# Altium schematic symbol library Schlib_AC.SchLib: 27 symbols
Pins are listed as number, name and electrical type; pins without a type are passive.

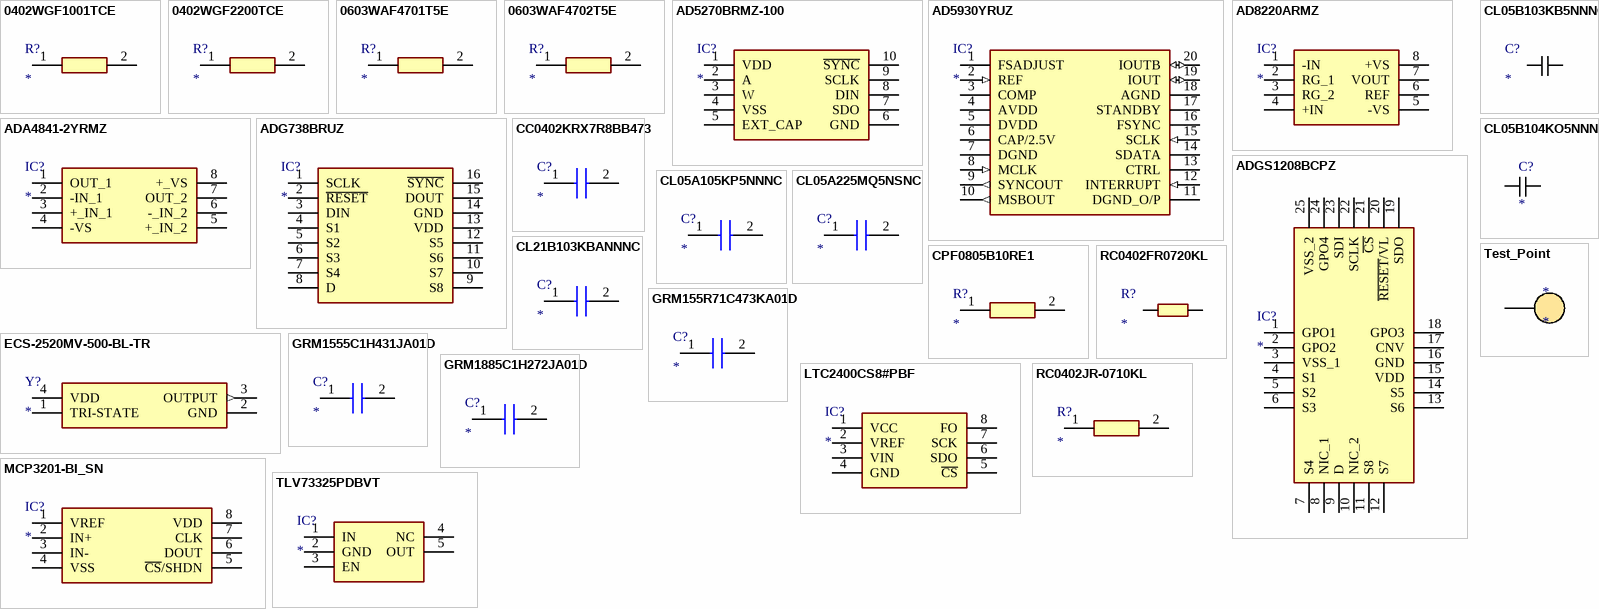
[diagram p0: symbols 0402WGF1001TCE to TLV73325PDBVT]

## 0402WGF1001TCE
designator R?
Resistor; Manufacturer_Name: UNI-ROYAL(Uniroyal Elec); Manufacturer_Part_Number: 0402WGF1001TCE; Description: 1K +/-1% 1/16W +/-100ppm/ 0402 Chip Resistor; Datasheet Link: https://datasheet.lcsc.com/szlcsc/Uniroyal-Elec-0402WGF1001TCE_C11702.pdf; Height: 0.4mm
footprint RESC1005X40N
pins: 1, 2

## 0402WGF2200TCE
designator R?
Resistor; Manufacturer_Name: ROYALOHM; Manufacturer_Part_Number: 0402WGF2200TCE; Datasheet Link: https://www2.mouser.com/datasheet/2/1365/1-3044649.pdf; Height: 0.4mm; Mouser Part Number: 303-0402WGF2200TCE; Mouser Price/Stock: https://www.mouser.co.uk/ProductDetail/Royalohm/0402WGF2200TCE?qs=e8oIoAS2J1RP9vRYNvZ%252BDQ%3D%3D
footprint RESC1005X40N
pins: 1, 2

## 0603WAF4701T5E
designator R?
Resistor; Manufacturer_Name: UNI-ROYAL(Uniroyal Elec); Manufacturer_Part_Number: 0603WAF4701T5E; Datasheet Link: https://datasheet.lcsc.com/szlcsc/Uniroyal-Elec-0603WAF4701T5E_C23162.pdf; Height: 0.55mm
footprint RESC1608X55N
pins: 1, 2

## 0603WAF4702T5E
designator R?
Resistor; Manufacturer_Name: UNI-ROYAL(Uniroyal Elec); Manufacturer_Part_Number: 0603WAF4702T5E; Datasheet Link: https://datasheet.lcsc.com/szlcsc/Uniroyal-Elec-0603WAF4702T5E_C25819.pdf; Height: 0.55mm
footprint RESC1608X55N
pins: 1, 2

## AD5270BRMZ-100
designator IC?
Integrated Circuit; Manufacturer_Name: Analog Devices; Manufacturer_Part_Number: AD5270BRMZ-100; Datasheet Link: https://www.analog.com/media/en/technical-documentation/data-sheets/ad5270_5271.pdf; Height: 1.1mm; Mouser Part Number: 584-AD5270BRMZ-100; Mouser Price/Stock: https://www.mouser.co.uk/ProductDetail/Analog-Devices/AD5270BRMZ-100?qs=NmRFExCfTkFpgTn7ufWp4w%3D%3D; Arrow Part Number: AD5270BRMZ-100; Arrow Price/Stock: https://www.arrow.com/en/products/ad5270brmz-100/analog-devices?region=europe
footprint SOP50P490X110-10N
pins: 1 VDD, 2 A, 3 W, 4 VSS, 5 EXT_CAP, 6 GND, 7 SDO, 8 DIN, 9 SCLK, 10 ~{SYNC}

## AD5930YRUZ
designator IC?
Integrated Circuit; Manufacturer_Name: Analog Devices; Manufacturer_Part_Number: AD5930YRUZ; Datasheet Link: https://datasheet.datasheetarchive.com/originals/distributors/Datasheets-4/DSA-67194.pdf; Height: 1.2mm; Mouser Part Number: 584-AD5930YRUZ; Mouser Price/Stock: https://www.mouser.co.uk/ProductDetail/Analog-Devices/AD5930YRUZ?qs=NmRFExCfTkFA5qWdGRGhzQ%3D%3D; Arrow Part Number: AD5930YRUZ; Arrow Price/Stock: https://www.arrow.com/en/products/ad5930yruz/analog-devices?region=nac
footprint SOP65P640X120-20N
pins: 1 FSADJUST, 2 REF (in), 3 COMP, 4 AVDD (power), 5 DVDD (power), 6 CAP/2.5V, 7 DGND (power), 8 MCLK (in), 9 SYNCOUT (out), 10 MSBOUT (out), 11 DGND_O/P (power), 12 INTERRUPT (in), 13 CTRL, 14 SDATA, 15 SCLK (in), 16 FSYNC, 17 STANDBY, 18 AGND (power), 19 IOUT (io), 20 IOUTB (io)

## AD8220ARMZ
designator IC?
Integrated Circuit; Manufacturer_Name: Analog Devices; Manufacturer_Part_Number: AD8220ARMZ; Datasheet Link: http://www.analog.com/static/imported-files/data_sheets/AD8220.pdf; Height: 1.1mm; Mouser Part Number: 584-AD8220ARMZ; Mouser Price/Stock: https://www.mouser.co.uk/ProductDetail/Analog-Devices/AD8220ARMZ?qs=%2FtpEQrCGXCySRYIeTivM6A%3D%3D; Arrow Part Number: AD8220ARMZ; Arrow Price/Stock: https://www.arrow.com/en/products/ad8220armz/analog-devices?utm_currency=USD&region=europe
footprint SOP65P490X110-8N
pins: 1 -IN, 2 RG_1, 3 RG_2, 4 +IN, 5 -VS, 6 REF, 7 VOUT, 8 +VS

## ADA4841-2YRMZ
designator IC?
Integrated Circuit; Manufacturer_Name: Analog Devices; Manufacturer_Part_Number: ADA4841-2YRMZ; Datasheet Link: https://datasheet.datasheetarchive.com/originals/distributors/Datasheets-SFU1/DSASFU10004447.pdf; Height: 1.1mm; Mouser Part Number: 584-ADA4841-2YRMZ; Mouser Price/Stock: https://www.mouser.co.uk/ProductDetail/Analog-Devices/ADA4841-2YRMZ?qs=BpaRKvA4VqEiAK4J4giIjQ%3D%3D; Arrow Part Number: ADA4841-2YRMZ; Arrow Price/Stock: https://www.arrow.com/en/products/ada4841-2yrmz/analog-devices?utm_currency=USD&region=nac
footprint SOP65P490X110-8N
pins: 1 OUT_1, 2 -IN_1, 3 +_IN_1, 4 -VS, 5 +_IN_2, 6 -_IN_2, 7 OUT_2, 8 +_VS

## ADG738BRUZ
designator IC?
Integrated Circuit; Manufacturer_Name: Analog Devices; Manufacturer_Part_Number: ADG738BRUZ; Datasheet Link: http://www.analog.com/media/en/technical-documentation/data-sheets/ADG738_739.pdf; Height: 1.2mm; Mouser Part Number: 584-ADG738BRUZ; Mouser Price/Stock: https://www.mouser.co.uk/ProductDetail/Analog-Devices/ADG738BRUZ?qs=BpaRKvA4VqFBoYY1IG1vMw%3D%3D; Arrow Part Number: ADG738BRUZ; Arrow Price/Stock: https://www.arrow.com/en/products/adg738bruz/analog-devices
footprint SOP65P640X120-16N
pins: 1 SCLK, 2 ~{RESET}, 3 DIN, 4 S1, 5 S2, 6 S3, 7 S4, 8 D, 9 S8, 10 S7, 11 S6, 12 S5, 13 VDD, 14 GND, 15 DOUT, 16 ~{SYNC}

## ADGS1208BCPZ
designator IC?
Integrated Circuit; Manufacturer_Name: Analog Devices; Manufacturer_Part_Number: ADGS1208BCPZ; Datasheet Link: https://www.analog.com/media/en/technical-documentation/data-sheets/adgs1208-1209.pdf; Height: 0.8mm; Mouser Part Number: 584-ADGS1208BCPZ; Mouser Price/Stock: https://www.mouser.co.uk/ProductDetail/Analog-Devices/ADGS1208BCPZ?qs=wUXugUrL1qwNx3eu79F9xg%3D%3D; Arrow Part Number: ADGS1208BCPZ; Arrow Price/Stock: https://www.arrow.com/en/products/adgs1208bcpz/analog-devices
footprint QFN50P400X400X80-25N-D
pins: 1 GPO1, 2 GPO2, 3 VSS_1, 4 S1, 5 S2, 6 S3, 7 S4, 8 NIC_1, 9 D, 10 NIC_2, 11 S8, 12 S7, 13 S6, 14 S5, 15 VDD, 16 GND, 17 CNV, 18 GPO3, 19 SDO, 20 ~{RESET}/VL, 21 ~{CS}, 22 SCLK, 23 SDI, 24 GPO4, 25 VSS_2

## CC0402KRX7R8BB473
designator C?
Capacitor; Manufacturer_Name: YAGEO; Manufacturer_Part_Number: CC0402KRX7R8BB473; Datasheet Link: https://www.mouser.in/ProductDetail/YAGEO/CC0402KRX7R8BB473?qs=57cj7OiSijk2hQ5IUC6PCA%3D%3D; Height: 0.22mm; Arrow Part Number: CC0402KRX7R8BB473; Arrow Price/Stock: https://www.arrow.com/en/products/cc0402krx7r8bb473/yageo?utm_currency=USD&region=nac
footprint CAPC0402X22N
pins: 1, 2

## CL05A105KP5NNNC
designator C?
Capacitor; Manufacturer_Name: SAMSUNG; Manufacturer_Part_Number: CL05A105KP5NNNC; Datasheet Link: https://www.arrow.com/en/products/cl05a105kp5nnnc/samsung-electro-mechanics; Height: 0.55mm; Mouser Part Number: 187-CL05A105KP5NNNC; Mouser Price/Stock: https://www.mouser.co.uk/ProductDetail/Samsung-Electro-Mechanics/CL05A105KP5NNNC?qs=X6jEic%2FHinBsUeNeR9HD7w%3D%3D; Arrow Part Number: CL05A105KP5NNNC; Arrow Price/Stock: https://www.arrow.com/en/products/cl05a105kp5nnnc/samsung-electro-mechanics?region=nac
footprint CAPC1005X55N
pins: 1, 2

## CL05A225MQ5NSNC
designator C?
Capacitor; Manufacturer_Name: SAMSUNG; Manufacturer_Part_Number: CL05A225MQ5NSNC; Datasheet Link: https://datasheet.datasheetarchive.com/originals/dk/DKDS-19/372932.pdf; Height: 0.57mm; Mouser Part Number: 187-CL05A225MQ5NSNC; Mouser Price/Stock: https://www.mouser.co.uk/ProductDetail/Samsung-Electro-Mechanics/CL05A225MQ5NSNC?qs=X6jEic%2FHinC0eBcvtpjFyQ%3D%3D; Arrow Part Number: CL05A225MQ5NSNC; Arrow Price/Stock: https://www.arrow.com/en/products/cl05a225mq5nsnc/samsung-electro-mechanics?utm_currency=USD&region=nac
footprint CAPC1005X57N
pins: 1, 2

## CL05B103KB5NNNC
designator C?
Capacitor; Manufacturer_Name: SAMSUNG; Manufacturer_Part_Number: CL05B103KB5NNNC; Datasheet Link: https://datasheet.datasheetarchive.com/originals/distributors/Datasheets-DGA10/2407958.pdf; Height: 0.55mm; Mouser Part Number: 187-CL05B103KB5NNNC; Mouser Price/Stock: https://www.mouser.co.uk/ProductDetail/Samsung-Electro-Mechanics/CL05B103KB5NNNC?qs=349EhDEZ59pcaIbMQHo3bQ%3D%3D; Arrow Part Number: CL05B103KB5NNNC; Arrow Price/Stock: https://www.arrow.com/en/products/cl05b103kb5nnnc/samsung-electro-mechanics?utm_currency=USD&region=nac
footprint CAPC1005X55N
pins: 1, 2

## CL05B104KO5NNNC
designator C?
Capacitor; Manufacturer_Name: SAMSUNG; Manufacturer_Part_Number: CL05B104KO5NNNC; Datasheet Link: https://datasheet.datasheetarchive.com/originals/distributors/Datasheets-DGA10/2408147.pdf; Height: 0.55mm; Mouser Part Number: 187-CL05B104KO5NNNC; Mouser Price/Stock: https://www.mouser.co.uk/ProductDetail/Samsung-Electro-Mechanics/CL05B104KO5NNNC?qs=hqM3L16%252BxlfT2SKOuAUq6Q%3D%3D; Arrow Part Number: CL05B104KO5NNNC; Arrow Price/Stock: https://www.arrow.com/en/products/cl05b104ko5nnnc/samsung-electro-mechanics?utm_currency=USD&region=nac
footprint CAPC1005X55N
pins: 1, 2

## CL21B103KBANNNC
designator C?
Capacitor; Manufacturer_Name: SAMSUNG; Manufacturer_Part_Number: CL21B103KBANNNC; Datasheet Link: https://datasheet.datasheetarchive.com/originals/distributors/Datasheets_SAMA/97c54fb7f716f6f5bd35dfc2c9b17795.pdf; Height: 0.75mm; Mouser Part Number: 187-CL21B103KBANNNC; Mouser Price/Stock: https://www.mouser.co.uk/ProductDetail/Samsung-Electro-Mechanics/CL21B103KBANNNC?qs=349EhDEZ59oTK9iJ%2FqCMuw%3D%3D; Arrow Part Number: CL21B103KBANNNC; Arrow Price/Stock: https://www.arrow.com/en/products/cl21b103kbannnc/samsung-electro-mechanics?utm_currency=USD&region=nac
footprint CAPC2012X75N
pins: 1, 2

## CPF0805B10RE1
designator R?
Resistor; Manufacturer_Name: TE Connectivity; Manufacturer_Part_Number: CPF0805B10RE1; Datasheet Link: http://docs-europe.electrocomponents.com/webdocs/13d1/0900766b813d116f.pdf; Height: 0.65mm; Mouser Part Number: 279-CPF0805B10RE1; Mouser Price/Stock: https://www.mouser.co.uk/ProductDetail/TE-Connectivity-Holsworthy/CPF0805B10RE1?qs=qj6TO2nKJqjxTen6wABuaQ%3D%3D; Arrow Part Number: CPF0805B10RE1; Arrow Price/Stock: https://www.arrow.com/en/products/cpf0805b10re1/te-connectivity?region=nac
footprint RESC2012X65N
pins: 1, 2

## ECS-2520MV-500-BL-TR
designator Y?
Crystal or Oscillator; Manufacturer_Name: ECS; Manufacturer_Part_Number: ECS-2520MV-500-BL-TR; Datasheet Link: https://ecsxtal.com/store/pdf/ECS-2520MV.pdf; Height: 0.9mm; Mouser Part Number: 520-2520MV-500-BL-TR; Mouser Price/Stock: https://www.mouser.co.uk/ProductDetail/ECS/ECS-2520MV-500-BL-TR?qs=DRkmTr78QARre2%252BXmq63mg%3D%3D; Arrow Part Number: ECS-2520MV-500-BL-TR; Arrow Price/Stock: https://www.arrow.com/en/products/ecs-2520mv-500-bl-tr/ecs-international?region=nac
footprint ECS2520MV500BLTR
pins: 1 TRI-STATE, 2 GND, 3 OUTPUT (out), 4 VDD

## GRM155R71C473KA01D
designator C?
Capacitor; Manufacturer_Name: Murata Electronics; Manufacturer_Part_Number: GRM155R71C473KA01D; Datasheet Link: https://search.murata.co.jp/Ceramy/image/img/A01X/G101/ENG/GRM155R71C473KA01-01A.pdf; Height: 0.33mm; Mouser Part Number: 81-GRM155R71C473KA01; Mouser Price/Stock: https://www.mouser.co.uk/ProductDetail/Murata-Electronics/GRM155R71C473KA01D?qs=tOieHv2smhnO%2FI68nKdt9g%3D%3D; Arrow Part Number: GRM155R71C473KA01D; Arrow Price/Stock: https://www.arrow.com/en/products/grm155r71c473ka01d/murata-manufacturing?region=nac
footprint GRM15x
pins: 1, 2

## GRM1555C1H431JA01D
designator C?
Capacitor; Manufacturer_Name: Murata Electronics; Manufacturer_Part_Number: GRM1555C1H431JA01D; Description: Murata 0402 GRM 430pF Ceramic Multilayer Capacitor; Datasheet Link: https://search.murata.co.jp/Ceramy/image/img/A01X/G101/ENG/GRM1555C1H431JA01-01A.pdf; Height: 0.7mm; Mouser Part Number: 81-GRM1555C1H431JA1D; Mouser Price/Stock: https://www.mouser.co.uk/ProductDetail/Murata-Electronics/GRM1555C1H431JA01D?qs=MY6wChARw2wtFsv3uU537Q%3D%3D
footprint CAPC1005X70N
pins: 1, 2

## GRM1885C1H272JA01D
designator C?
Capacitor; Manufacturer_Name: Murata Electronics; Manufacturer_Part_Number: GRM1885C1H272JA01D; Datasheet Link: https://search.murata.co.jp/Ceramy/image/img/A01X/G101/ENG/GRM1885C1H272JA01-01A.pdf; Height: 0.9mm; Mouser Part Number: 81-GRM185C1H272JA01D; Mouser Price/Stock: https://www.mouser.co.uk/ProductDetail/Murata-Electronics/GRM1885C1H272JA01D?qs=%2FEhSLMV8HUQlL5ZggNQk6g%3D%3D; Arrow Part Number: GRM1885C1H272JA01D; Arrow Price/Stock: https://www.arrow.com/en/products/grm1885c1h272ja01d/murata-manufacturing
footprint CAPC1608X90N
pins: 1, 2

## LTC2400CS8#PBF
designator IC?
Integrated Circuit; Manufacturer_Name: Analog Devices; Manufacturer_Part_Number: LTC2400CS8#PBF; Datasheet Link: https://www.analog.com/media/en/technical-documentation/data-sheets/2400fa.pdf; Height: 1.752mm; Mouser Part Number: 584-LTC2400CS8#PBF; Mouser Price/Stock: https://www.mouser.co.uk/ProductDetail/Analog-Devices/LTC2400CS8PBF?qs=hVkxg5c3xu%252BjtNDOfNdyqQ%3D%3D; Arrow Part Number: LTC2400CS8#PBF; Arrow Price/Stock: https://www.arrow.com/en/products/ltc2400cs8pbf/analog-devices?region=nac
footprint SOIC127P599X175-8N
pins: 1 VCC, 2 VREF, 3 VIN, 4 GND, 5 ~{CS}, 6 SDO, 7 SCK, 8 FO

## MCP3201-BI_SN
designator IC?
Integrated Circuit; Manufacturer_Name: Microchip; Manufacturer_Part_Number: MCP3201-BI/SN; Description: 12 bit A-D converter,MCP3201-BI/SN SO8; Datasheet Link: http://ww1.microchip.com/downloads/en/DeviceDoc/21290F.pdf; Height: 1.75mm; Mouser Part Number: 579-MCP3201-BI/SN; Mouser Price/Stock: https://www.mouser.co.uk/ProductDetail/Microchip-Technology/MCP3201-BI-SN?qs=DYhulPWWrtvVnVeNjjjVNg%3D%3D; Arrow Part Number: MCP3201-BI/SN; Arrow Price/Stock: https://www.arrow.com/en/products/mcp3201-bisn/microchip-technology?utm_currency=USD&region=nac
footprint SOIC127P600X175-8N
pins: 1 VREF, 2 IN+, 3 IN-, 4 VSS, 5 ~{CS}/SHDN, 6 DOUT, 7 CLK, 8 VDD

## RC0402FR0720KL
designator R?
Resistor; Manufacturer_Name: KEMET; Manufacturer_Part_Number: RC0402FR0720KL; Datasheet Link: http://www.yageo.com/documents/recent/PYu-RC0402_51_RoHS_L_6_r.pdf; Height: 0.4mm; Arrow Part Number: RC0402FR0720KL; Arrow Price/Stock: https://www.arrow.com/en/products/rc0402fr-0720kl/yageo
footprint RESC1005X40N
pins: 1, 2

## RC0402JR-0710KL
designator R?
Resistor; Manufacturer_Name: YAGEO; Manufacturer_Part_Number: RC0402JR-0710KL; Datasheet Link: https://www.yageo.com/upload/media/product/productsearch/datasheet/rchip/PYu-RC_Group_51_RoHS_L_12.pdf; Height: 0.4mm; Mouser Part Number: 603-RC0402JR-0710KL; Mouser Price/Stock: https://www.mouser.co.uk/ProductDetail/YAGEO/RC0402JR-0710KL?qs=V1yeUXFNrkk4BhFptVo0Rw%3D%3D; Arrow Part Number: RC0402JR-0710KL; Arrow Price/Stock: https://www.arrow.com/en/products/rc0402jr-0710kl/yageo?region=nac
footprint RESC1005X40N
pins: 1, 2

## Test_Point
designator *
footprint Test_Point
pins: 1

## TLV73325PDBVT
designator IC?
Integrated Circuit; Manufacturer_Name: Texas Instruments; Manufacturer_Part_Number: TLV73325PDBVT; Datasheet Link: http://www.ti.com/lit/gpn/TLV733P; Height: 1.45mm; Mouser Part Number: 595-TLV73325PDBVT; Mouser Price/Stock: https://www.mouser.co.uk/ProductDetail/Texas-Instruments/TLV73325PDBVT?qs=ifm8N2KdrcboKl2OgYRRdw%3D%3D; Arrow Part Number: TLV73325PDBVT; Arrow Price/Stock: https://www.arrow.com/en/products/tlv73325pdbvt/texas-instruments
footprint SOT95P280X145-5N
pins: 1 IN, 2 GND, 3 EN, 4 NC, 5 OUT